# EAGLE library part MPU9250 (library MPU9250)
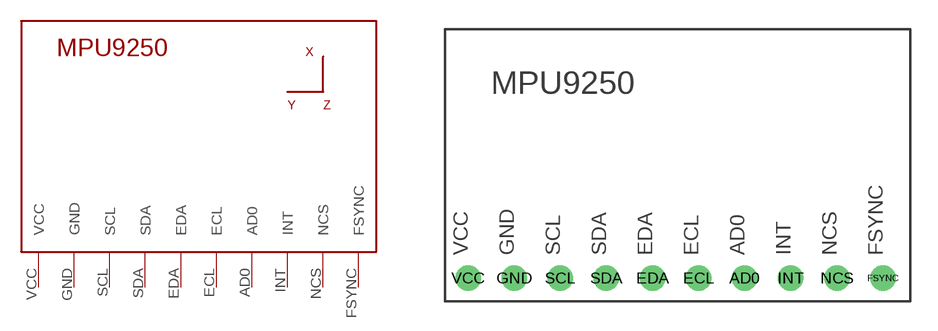
[diagram p0: symbol with the pads of MPU9250; footprint MPU9250]

Designator prefix -

## MPU9250MPU9250  [MPU9250]
AD0  AD0
ECL  ECL
EDA  EDA
FSYNC  FSYNC
GND  GND
INT  INT
NCS  NCS
SCL  SCL
SDA  SDA
VCC  VCC

## Footprint MPU9250 (pad centres in mm)
drill 0.9: AD0 16.51,1.27; ECL 13.97,1.27; EDA 11.43,1.27; FSYNC 24.13,1.27; GND 3.81,1.27; INT 19.05,1.27; NCS 21.59,1.27; SCL 6.35,1.27; SDA 8.89,1.27; VCC 1.27,1.27